# Altium schematic symbol library 1487UD1.Schlib: 1 symbol
Pins are listed as number, name and electrical type; pins without a type are passive.

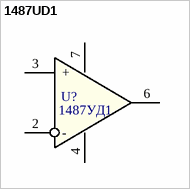
[diagram p0: symbol 1487UD1]

## 1487UD1
designator U?, comment 1487УД1
Назначение: Операционный усилитель; Наименование: 1487УД1
footprint HO2.8-1B
pins: 2 -, 3 +, 4 Vss-, 6 Vout, 7 Vss+